# EAGLE library part PIC18F2XK22 (library NBitWonder)
28-pin XLP Microcontroller For more information on this part, see http://ww1.microchip.com/downloads/en/DeviceDoc/41412D.pdf
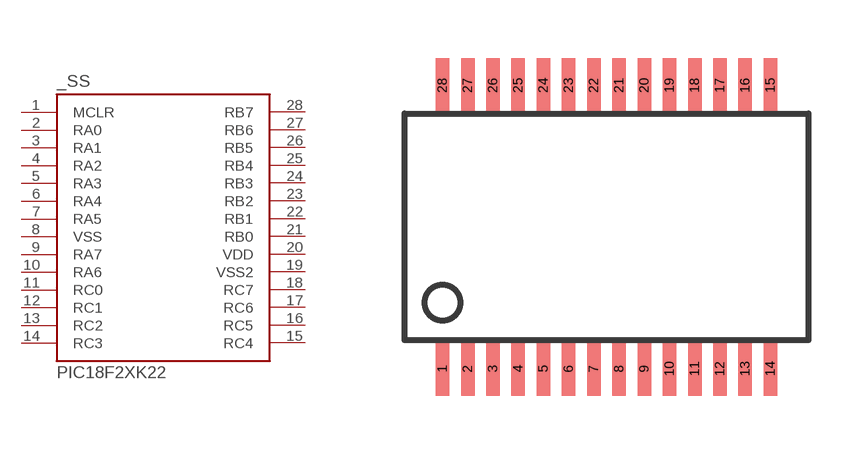
[diagram p20: symbol with the pads of SSOP28; footprint SSOP28]

Designator prefix _SS

## PIC18F2XK22  [SSOP28]
1  MCLR
2  RA0
3  RA1
4  RA2
5  RA3
6  RA4
7  RA5
8  VSS
9  RA7
10  RA6
11  RC0
12  RC1
13  RC2
14  RC3
15  RC4
16  RC5
17  RC6
18  RC7
19  VSS2
20  VDD
21  RB0
22  RB1
23  RB2
24  RB3
25  RB4
26  RB5
27  RB6
28  RB7

## Footprint SSOP28 (pad centres in mm)
Small Shrink Outline Package
smd 0.348 x 1.397: 1 -4.225,-3.656; 2 -3.575,-3.656; 3 -2.925,-3.656; 4 -2.275,-3.656; 5 -1.625,-3.656; 6 -0.975,-3.656; 7 -0.325,-3.656; 8 0.325,-3.656; 9 0.975,-3.656; 10 1.625,-3.656; 11 2.275,-3.656; 12 2.925,-3.656; 13 3.575,-3.656; 14 4.225,-3.656; 15 4.225,3.656; 16 3.575,3.656; 17 2.925,3.656; 18 2.275,3.656; 19 1.625,3.656; 20 0.975,3.656; 21 0.325,3.656; 22 -0.325,3.656; 23 -0.975,3.656; 24 -1.625,3.656; 25 -2.275,3.656; 26 -2.925,3.656; 27 -3.575,3.656; 28 -4.225,3.656